# EAGLE library part G6K-2F-Y-DC3 (library HomeKinection)
Low Signal Relay - PCB 3.2MM DPDT G 3VDC Non-latching
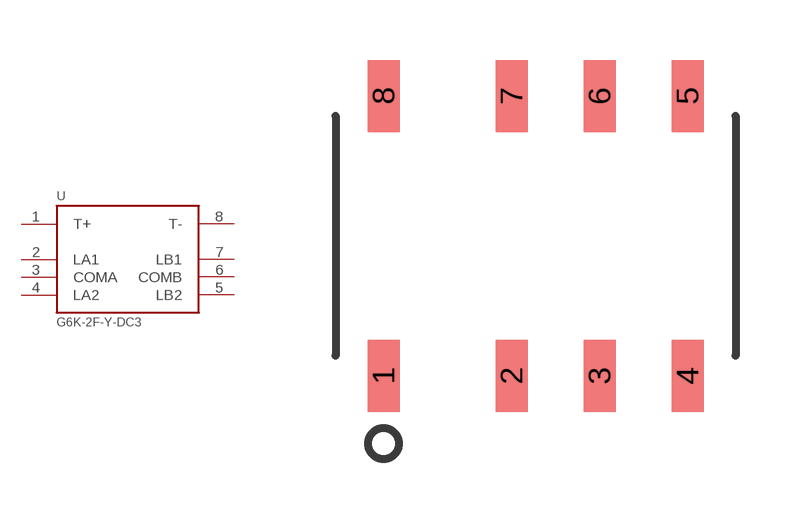
[diagram p5: symbol with the pads of G6K-2F-Y-DC3; footprint G6K-2F-Y-DC3]

Designator prefix -

## G6K-2F-Y-DC3  [G6K-2F-Y-DC3]
1  T+
2  LA1
3  COMA
4  LA2
5  LB2
6  COMB
7  LB1
8  T-

## Footprint G6K-2F-Y-DC3 (pad centres in mm)
smd 0.8 x 1.8: 1 -3.8,-3.5; 2 -0.6,-3.5; 3 1.6,-3.5; 4 3.8,-3.5; 5 3.8,3.5; 6 1.6,3.5; 7 -0.6,3.5; 8 -3.8,3.5